# Altium schematic symbol library 三极管和MOS.SchLib: 4 symbols
Pins are listed as number, name and electrical type; pins without a type are passive.

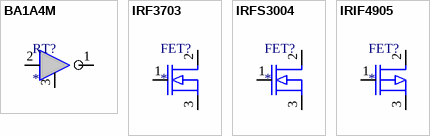
[diagram p0: symbols BA1A4M to IRIF4905]

## BA1A4M
designator RT?
pins: 1 EMITTER, 2 COLLECTOR, 3 10

## IRF3703
designator FET?
pins: 1 G, 2 D, 3 S

## IRFS3004
designator FET?
pins: 1 G, 2 D, 3 S

## IRIF4905
designator FET?
pins: 1 G, 2 D, 3 S